# Altium footprint library Regulators.PcbLib: 3 footprints
Each footprint in its own frame and in the unit in brackets; x right, y up, seen from the top. Pads: shape width x height; smd on the part's side, far side on the other; paste and mask are expansions set on the pad; w line width, h text height; cw(c..) or ccw(c..) is an arc to the next point about the centre after c.
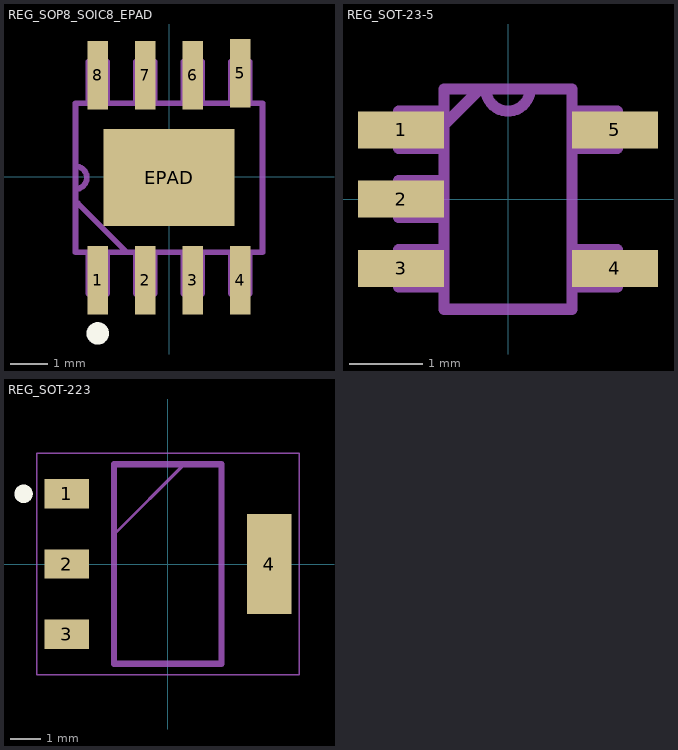
[diagram p0: the footprints below, top view; thin cyan lines are the x and y axes]

## REG_SOP8_SOIC8_EPAD [mil]
pads (9):
  rect 22x72 smd: 1(-75,-109) 2(-25,-109) 3(25,-109) 4(75,-109) 5(75,109) 6(25,107) 7(-25,107) 8(-75,107)
  rect 138x102 smd paste+0: EPAD(0,-1)
Top Overlay:
  circle w11.81: c-75,-165 r5.91
Top Paste:
  region: 0,-1 0,9 -10,9 -10,-1
  region: 0,-1 0,9 -10,9 -10,-1
  region: 0,-1 0,9 -10,9 -10,-1
  region: 0,-1 0,9 -10,9 -10,-1
Assembly Top:
  lines w6: -98.5,-13 ccw(c-98.5,-1) -98.5,11 ; -95.69,-28.31 -44.31,-79.69 ; -85,-123 -85,-79.5 -65,-79.5 -65,-123 ; -85,121 -85,77.5 -65,77.5 -65,121 ; -35,-123 -35,-79.5 -15,-79.5 -15,-123 ; -35,121 -35,77.5 -15,77.5 -15,121 ; 15,-123 15,-79.5 35,-79.5 35,-123 ; 15,121 15,77.5 35,77.5 35,121 ; 65,-123 65,-79.5 85,-79.5 85,-123 ; 65,121 65,77.5 85,77.5 85,121 ; -98.5,-79.5 -98.5,77.5 98.5,77.5 98.5,-79.5 -98.5,-79.5
3D body: height 69.09, standoff 0, extent -98.51,-123 98.5,121.01

## REG_SOT-23-5 [mil]
pads (5):
  rect 46.5x20 smd: 1(-57.75,37.4) 2(-57.75,0) 3(-57.75,-37.4) 4(57.75,-37.4) 5(57.75,37.4)
Assembly Top:
  lines w6: -34.5,40 -15,59.5 ; -12,59.5 ccw(c0,59.5) 12,59.5 ; -59,-47.4 -59,-27.4 -34.5,-27.4 -34.5,-47.4 -59,-47.4 ; -59,-10 -59,10 -34.5,10 -34.5,-10 -59,-10 ; -59,27.4 -59,47.4 -34.5,47.4 -34.5,27.4 -59,27.4 ; -34.5,-59.5 34.5,-59.5 34.5,59.5 -34.5,59.5 -34.5,-59.5 ; 34.5,-47.4 34.5,-27.4 59,-27.4 59,-47.4 34.5,-47.4 ; 34.5,27.4 34.5,47.4 59,47.4 59,27.4 34.5,27.4
  text "." at -105,35 h59.06
3D body: height 51.1, standoff 0, extent -59.01,-59.49 59.02,59.49

## REG_SOT-223 [mil]
pads (4):
  rect 57.09x37.4 smd: 1(-129.92,90.16) 2(-129.92,0) 3(-129.92,-90.16)
  rect 57.09x127.95 smd: 4(129.92,0)
Top Overlay:
  circle w11.81: c-185,90 r5.91
Assembly Top:
  lines w1.97: -168.31,-141.93 -168.31,141.93 168.31,141.93 168.31,-141.93 -168.31,-141.93
  lines w3.94: -68.98,37.87 21.18,128.03 ; -68.98,-128.03 68.98,-128.03 68.98,128.03 -68.98,128.03 -68.98,-128.03
Mechanical 22:
  lines w7.87: -68.98,-128.03 68.98,-128.03 68.98,128.03 -68.98,128.03 -68.98,-128.03
3D body: height 70.08, standoff -0.79, extent -127.08,-124.01 137.09,124.02